# EAGLE library part 613032216921 (library Wurth_Elektronik2)
WR-PHD 2.54mm Dual S. Header Bottom Entry Large, 32 Pins=>Code : Con_BTB_SHD_2.54_2_613032216921 <http://katalog.we-online.de/media/images/eican/Con_BTB_SHD_2.54_2_6130xx216921_pf2.jpg> Details see: http://katalog.we-online.de/en/em/613_0xx_216_921 Created 2014-05-30, Karrer Zheng 2014 (C) Würth Elektronik
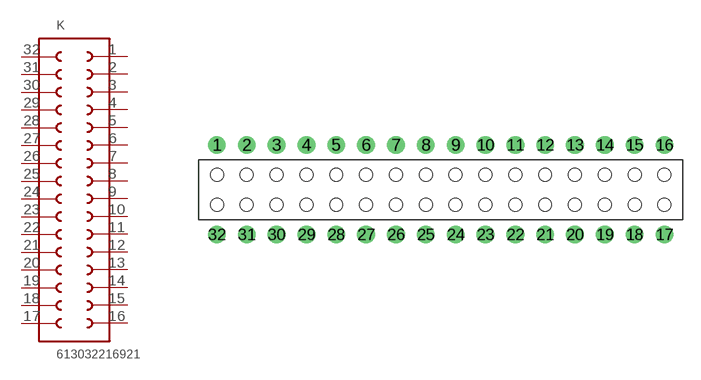
[diagram p180: symbol with the pads of 613032216921; footprint 613032216921]

Designator prefix K

## 613032216921  [613032216921]
1  1  pas
2  2  pas
3  3  pas
4  4  pas
5  5  pas
6  6  pas
7  7  pas
8  8  pas
9  9  pas
10  10  pas
11  11  pas
12  12  pas
13  13  pas
14  14  pas
15  15  pas
16  16  pas
17  17  pas
18  18  pas
19  19  pas
20  20  pas
21  21  pas
22  22  pas
23  23  pas
24  24  pas
25  25  pas
26  26  pas
27  27  pas
28  28  pas
29  29  pas
30  30  pas
31  31  pas
32  32  pas

## Footprint 613032216921 (pad centres in mm)
WR-PHD 2.54mm Dual S. Header Bottom Entry Large, 32 Pins
drill 1: 1 -19.05,3.81; 2 -16.51,3.81; 3 -13.97,3.81; 4 -11.43,3.81; 5 -8.89,3.81; 6 -6.35,3.81; 7 -3.81,3.81; 8 -1.27,3.81; 9 1.27,3.81; 10 3.81,3.81; 11 6.35,3.81; 12 8.89,3.81; 13 11.43,3.81; 14 13.97,3.81; 15 16.51,3.81; 16 19.05,3.81; 17 19.05,-3.81; 18 16.51,-3.81; 19 13.97,-3.81; 20 11.43,-3.81; 21 8.89,-3.81; 22 6.35,-3.81; 23 3.81,-3.81; 24 1.27,-3.81; 25 -1.27,-3.81; 26 -3.81,-3.81; 27 -6.35,-3.81; 28 -8.89,-3.81; 29 -11.43,-3.81; 30 -13.97,-3.81; 31 -16.51,-3.81; 32 -19.05,-3.81
hole 1.1 at -19.05,1.27
hole 1.1 at -16.51,1.27
hole 1.1 at -13.97,1.27
hole 1.1 at -11.43,1.27
hole 1.1 at -8.89,1.27
hole 1.1 at -6.35,1.27
hole 1.1 at -3.81,1.27
hole 1.1 at -1.27,1.27
hole 1.1 at 1.27,1.27
hole 1.1 at 3.81,1.27
hole 1.1 at 3.81,-1.27
hole 1.1 at 1.27,-1.27
hole 1.1 at -1.27,-1.27
hole 1.1 at -3.81,-1.27
hole 1.1 at -6.35,-1.27
hole 1.1 at -8.89,-1.27
hole 1.1 at -11.43,-1.27
hole 1.1 at -13.97,-1.27
hole 1.1 at -16.51,-1.27
hole 1.1 at -19.05,-1.27
hole 1.1 at 6.35,1.27
hole 1.1 at 6.35,-1.27
hole 1.1 at 8.89,1.27
hole 1.1 at 8.89,-1.27
hole 1.1 at 11.43,1.27
hole 1.1 at 11.43,-1.27
hole 1.1 at 13.97,1.27
hole 1.1 at 13.97,-1.27
hole 1.1 at 16.51,1.27
hole 1.1 at 16.51,-1.27
hole 1.1 at 19.05,1.27
hole 1.1 at 19.05,-1.27